# Altium schematic symbol library Sintetizador de frecuencia N-Fraccional.SchLib: 1 symbol
Pins are listed as number, name and electrical type; pins without a type are passive.

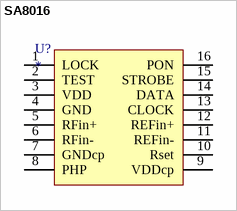
[diagram p0: symbol SA8016]

## SA8016
designator U?
datasheet: https://www.digchip.com/datasheets/parts/datasheet/364/SA8016-pdf.php
footprint SOP65P640X120-16N
pins: 1 LOCK, 2 TEST, 3 VDD, 4 GND, 5 RFin+, 6 RFin-, 7 GNDcp, 8 PHP, 9 VDDcp, 10 Rset, 11 REFin-, 12 REFin+, 13 CLOCK, 14 DATA, 15 STROBE, 16 PON